# EAGLE library part USB4105-GF-A (library USB4105-GF-A)
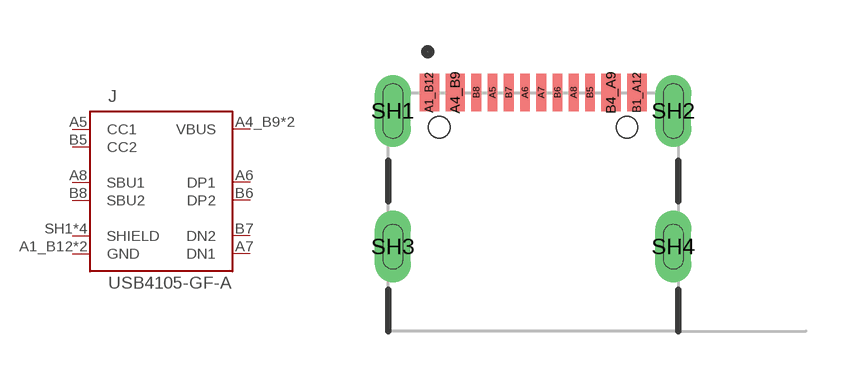
[diagram p0: symbol with the pads of GCT_USB4105-GF-A; footprint GCT_USB4105-GF-A]

Designator prefix J

## USB4105-GF-A (MANUFACTURER: Global Connector Technology; MAXIMUM_PACKAGE_HEIGHT: 3.31mm; PARTREV: B3; STANDARD: Manufacturer Recommendations)  [GCT_USB4105-GF-A]
A1_B12  GND  pwr
A4_B9  VBUS  pwr
A5  CC1
A6  DP1
A7  DN1
A8  SBU1
B1_A12  GND  pwr
B4_A9  VBUS  pwr
B5  CC2
B6  DP2
B7  DN2
B8  SBU2
SH1  SHIELD  pwr
SH2  SHIELD  pwr
SH3  SHIELD  pwr
SH4  SHIELD  pwr

## Footprint GCT_USB4105-GF-A (pad centres in mm)
smd 0.6 x 1.15: A1_B12 -3.2,4.755; A4_B9 -2.4,4.755; B1_A12 3.2,4.755; B4_A9 2.4,4.755
smd 0.3 x 1.15: A5 -1.25,4.755; A6 -0.25,4.755; A7 0.25,4.755; A8 1.25,4.755; B5 1.75,4.755; B6 0.75,4.755; B7 -0.75,4.755; B8 -1.75,4.755
drill 0.6 pad 1.1 long: SH1 -4.32,4.18; SH2 4.32,4.18
drill 0.6 pad 1 long: SH3 -4.32,0; SH4 4.32,0
hole 0.65 at 2.89,3.68
hole 0.65 at -2.89,3.68